# Altium footprint library 36903205S.PcbLib: 1 footprints
Each footprint in its own frame and in the unit in brackets; x right, y up, seen from the top. Pads: shape width x height; smd on the part's side, far side on the other; paste and mask are expansions set on the pad; w line width, h text height; cw(c..) or ccw(c..) is an arc to the next point about the centre after c.
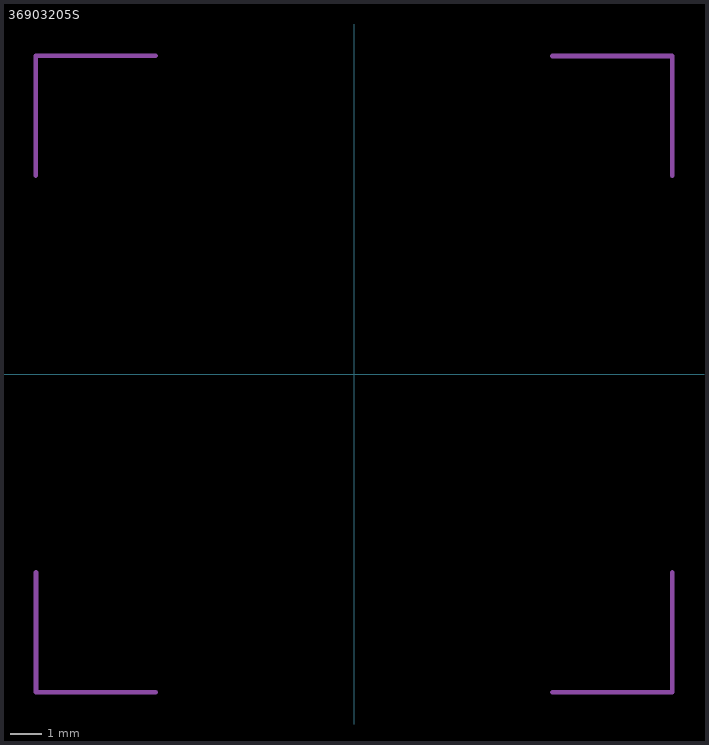
[diagram p0: the footprint, top view; thin cyan lines are the x and y axes]

## 36903205S [mm]
Top Assembly:
  lines w0.15: -10.108,6.306 -10.108,10.106 -6.308,10.106 ; -10.1,-6.3 -10.1,-10.1 -6.3,-10.1 ; 6.3,-10.1 10.1,-10.1 10.1,-6.3 ; 6.3,10.1 10.1,10.1 10.1,6.3
3D body "Download_STP_WE-SHC-36903205S (rev1).stp": height 3.5, standoff 0.3, extent -10.2,-10.2 10.2,10.2